# Altium schematic symbol library LP2980-3.0.Schlib: 1 symbol
Pins are listed as number, name and electrical type; pins without a type are passive.

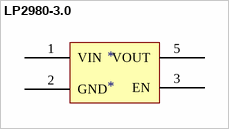
[diagram p0: symbol LP2980-3.0]

## LP2980-3.0
designator *
IC REG LDO 3V 50mA
pins: 1 VIN, 2 GND, 3 EN, 5 VOUT